# EAGLE library part ARDUINO_UNO_R3 (library PiB_boards)
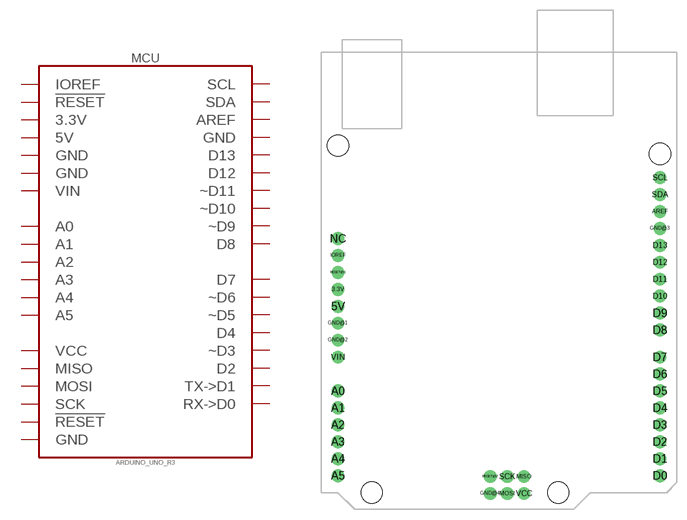
[diagram p0: symbol with the pads of ARDUINO_UNO_R3; footprint ARDUINO_UNO_R3]

Designator prefix MCU

## ARDUINO_UNO_R3 (DATASHEET: https://media.digikey.com/pdf/Data%20Sheets/Arduino%20PDFs/A000066_Web.pdf; DATASHEET_CABLE: http://www.assmann-wsw.com/fileadmin/datasheets/ASS_7066_CA.pdf; DIST: Digikey; DISTLINK: https://www.digikey.com/products/en?keywords=1050-1024-ND; DISTLINK_CABLE: https://www.digikey.com/products/en?keywords=AE1462-ND; DISTPN: 1050-1024-ND; DISTPN_CABLE: AE1462-ND; DIST_CABLE: Digikey; MFR: Arduino; MFR_CABLE: Assmann WSW Components; MPN: A000066; MPN_CABLE: AK672/2-1; VALUE: Arduino UNO R3)  [ARDUINO_UNO_R3]
3.3V  3.3V
5V  5V
A0  A0
A1  A1
A2  A2
A3  A3
A4  A4
A5  A5
AREF  AREF
D0  RX->D0
D1  TX->D1
D2  D2
D3  ~D3
D4  D4
D5  ~D5
D6  ~D6
D7  D7
D8  D8
D9  ~D9
D10  ~D10
D11  ~D11
D12  D12
D13  D13
GND@1  GND
GND@2  GND
GND@3  GND
GND@4  GND
IOREF  IOREF
MISO  MISO
MOSI  MOSI
RESET@1  !RESET!
RESET@2  !RESET!
SCK  SCK
SCL  SCL
SDA  SDA
VCC  VCC
VIN  VIN

## Footprint ARDUINO_UNO_R3 (pad centres in mm)
drill 1.016 pad 1.93: 3.3V -24.13,-1.27; 5V -24.13,-3.81; A0 -24.13,-16.51; A1 -24.13,-19.05; A2 -24.13,-21.59; A3 -24.13,-24.13; A4 -24.13,-26.67; A5 -24.13,-29.21; AREF 24.13,10.414; D0 24.13,-29.21; D1 24.13,-26.67; D2 24.13,-24.13; D3 24.13,-21.59; D4 24.13,-19.05; D5 24.13,-16.51; D6 24.13,-13.97; D7 24.13,-11.43; D8 24.13,-7.366; D9 24.13,-4.826; D10 24.13,-2.286; D11 24.13,0.254; D12 24.13,2.794; D13 24.13,5.334; GND@1 -24.13,-6.35; GND@2 -24.13,-8.89; GND@3 24.13,7.874; GND@4 -1.32,-31.89; IOREF -24.13,3.81; MISO 3.76,-29.35; MOSI 1.22,-31.89; NC -24.13,6.35; RESET@1 -24.13,1.27; RESET@2 -1.32,-29.35; SCK 1.22,-29.35; SCL 24.13,15.494; SDA 24.13,12.954; VCC 3.76,-31.89; VIN -24.13,-11.43
hole 3.175 at 24.13,19.05
hole 3.175 at 8.89,-31.75
hole 3.175 at -19.05,-31.75
hole 3.175 at -24.13,20.32